# Altium integrated library NSC RF and IF Modulator Demodulator.IntLib: 4 symbols
Pins are listed as number, name and electrical type; pins without a type are passive.

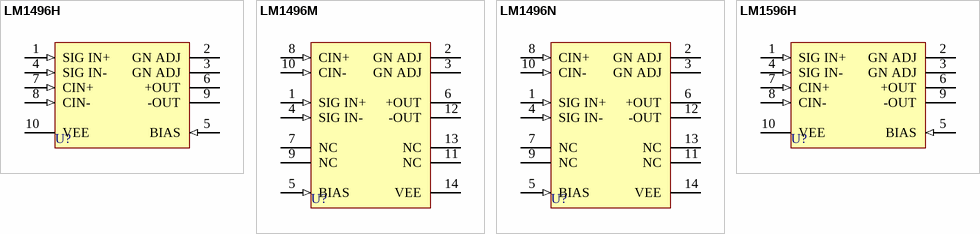
[diagram p0: symbols LM1496H to LM1596H]

## LM1496H
designator U?
Balanced Modulator-Demodulator; Note: Pin 10 is connected electrically to the case through the device substrate.; ComponentAvailability: Obsolete; Published: 15-Apr-2002; DatasheetVersion: Feb-1995; PackageVersion: 2000; PackageReference: H10C; Publisher: Altium Limited; PackageDescription: Can; 10 Leads; Pin Circle Dia. 5.84 mm; Lead Dia. 0.48 mm (max); ComponentLink1Description: Manufacturer Link; ComponentLink1URL: http://www.national.com/; ComponentLink2Description: Discontinuation Notice; ComponentLink2URL: http://www.national.com/obs/obsolescence.txt
footprint H10C (Can; 10 Leads; Pin Circle Dia. 5.84 mm; Lead Dia. 0.48 mm (max))
pins: 1 SIG IN+ (in), 2 GN ADJ, 3 GN ADJ, 4 SIG IN- (in), 5 BIAS (in), 6 +OUT (oc), 7 CIN+ (in), 8 CIN- (in), 9 -OUT (oc), 10 VEE (power)

## LM1496M
designator U?
Balanced Modulator-Demodulator; ComponentAvailability: Obsolete; Published: 15-Apr-2002; LatestRevisionDate: 13-Apr-2006; LatestRevisionNote: IPC-7351 Footprint Added.; DatasheetVersion: Feb-1995; PackageVersion: 2000; PackageReference: M14A; Publisher: Altium Limited; PackageDescription: 14-Pin Small Outline Integrated Circuit 1.27 mm Pitch; Code_IPC: SOIC127P600-14; ComponentLink1Description: Manufacturer Link; ComponentLink1URL: http://www.national.com/; ComponentLink2Description: Discontinuation Notice; ComponentLink2URL: http://www.national.com/obs/obsolescence.txt
footprint M14A_N (SOIC, 14-Leads, Body 8.6x3.9mm, Pitch 1.27mm, IPC Medium Density)
footprint M14A_L (SOIC, 14-Leads, Body 8.6x3.9mm, Pitch 1.27mm, IPC High Density)
footprint M14A_M (SOIC, 14-Leads, Body 8.6x3.9mm, Pitch 1.27mm, IPC Low Density)
3D model M14A (14-Pin Small Outline Integrated Circuit 1.27 mm Pitch)
pins: 1 SIG IN+ (in), 2 GN ADJ, 3 GN ADJ, 4 SIG IN- (in), 5 BIAS (in), 6 +OUT (oc), 7 NC, 8 CIN+ (in), 9 NC, 10 CIN- (in), 11 NC, 12 -OUT (oc), 13 NC, 14 VEE (power)

## LM1496N
designator U?
Balanced Modulator-Demodulator; ComponentAvailability: Obsolete; Published: 15-Apr-2002; LatestRevisionDate: 06-Jun-2005; LatestRevisionNote: Stylized 3D Model Added.; DatasheetVersion: Feb-1995; PackageVersion: 2000; PackageReference: N14A; Publisher: Altium Limited; PackageDescription: DIP; 14 Leads; Row Spacing 7.62 mm; Pitch 2.54 mm; ComponentLink1Description: Manufacturer Link; ComponentLink1URL: http://www.national.com/; ComponentLink2Description: Discontinuation Notice; ComponentLink2URL: http://www.national.com/obs/obsolescence.txt
footprint N14A (DIP; 14 Leads; Row Spacing 7.62 mm; Pitch 2.54 mm)
3D model N14A (DIP; 14 Leads; Row Spacing 7.62 mm; Pitch 2.54 mm)
pins: 1 SIG IN+ (in), 2 GN ADJ, 3 GN ADJ, 4 SIG IN- (in), 5 BIAS (in), 6 +OUT (oc), 7 NC, 8 CIN+ (in), 9 NC, 10 CIN- (in), 11 NC, 12 -OUT (oc), 13 NC, 14 VEE (power)

## LM1596H
designator U?
Balanced Modulator-Demodulator; Note: Pin 10 is connected electrically to the case through the device substrate.; ComponentAvailability: Obsolete; Published: 15-Apr-2002; DatasheetVersion: Feb-1995; PackageVersion: 2000; PackageReference: H10C; Publisher: Altium Limited; PackageDescription: Can; 10 Leads; Pin Circle Dia. 5.84 mm; Lead Dia. 0.48 mm (max); ComponentLink1Description: Manufacturer Link; ComponentLink1URL: http://www.national.com/; ComponentLink2Description: Discontinuation Notice; ComponentLink2URL: http://www.national.com/obs/obsolescence.txt
footprint H10C (Can; 10 Leads; Pin Circle Dia. 5.84 mm; Lead Dia. 0.48 mm (max))
pins: 1 SIG IN+ (in), 2 GN ADJ, 3 GN ADJ, 4 SIG IN- (in), 5 BIAS (in), 6 +OUT (oc), 7 CIN+ (in), 8 CIN- (in), 9 -OUT (oc), 10 VEE (power)